# Altium footprint library BQ41Z50RSNR.PcbLib: 3 footprints
Each footprint in its own frame and in the unit in brackets; x right, y up, seen from the top. Pads: shape width x height; smd on the part's side, far side on the other; paste and mask are expansions set on the pad; w line width, h text height; cw(c..) or ccw(c..) is an arc to the next point about the centre after c.
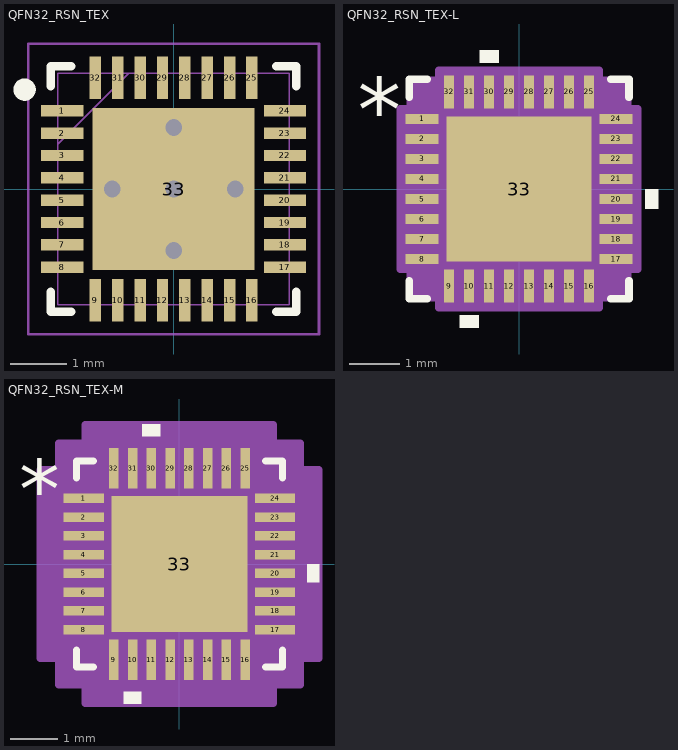
[diagram p0: the footprints below, top view; thin cyan lines are the x and y axes]

## QFN32_RSN_TEX [mil]
pads (33):
  rect 29.81x8.03 smd: 1(-78.41,55.12) 2(-78.41,39.38) 3(-78.41,23.62) 4(-78.41,7.88) 5(-78.41,-7.88) 6(-78.41,-23.62) 7(-78.41,-39.38) 8(-78.41,-55.12) 17(78.41,-55.12) 18(78.41,-39.38) 19(78.41,-23.62) 20(78.41,-7.88) 21(78.41,7.88) 22(78.41,23.62) 23(78.41,39.38) 24(78.41,55.12)
  rect 8.03x29.81 smd: 9(-55.12,-78.41) 10(-39.38,-78.41) 11(-23.62,-78.41) 12(-7.88,-78.41) 13(7.88,-78.41) 14(23.62,-78.41) 15(39.38,-78.41) 16(55.12,-78.41) 25(55.12,78.41) 26(39.38,78.41) 27(23.62,78.41) 28(7.88,78.41) 29(-7.88,78.41) 30(-23.62,78.41) 31(-39.38,78.41) 32(-55.12,78.41)
  rect 114x114 smd: 33(0,0)
via 0,0 diameter 23.62 hole 11.81
via -43.31,0 diameter 23.62 hole 11.81
via 43.31,0 diameter 23.62 hole 11.81
via 0,43.31 diameter 23.62 hole 11.81
via 0,-43.31 diameter 23.62 hole 11.81
Top Overlay:
  circle w7.87: c-105,70 r3.94
  lines w6: -86.5,-72.24 -86.5,-86.5 -72.24,-86.5 ; -86.5,72.24 -86.5,86.5 -72.24,86.5 ; 72.24,-86.5 86.5,-86.5 86.5,-72.24 ; 72.24,86.5 86.5,86.5 86.5,72.24
Top Paste:
  region: 53.06,-3.94 3.94,-3.94 3.94,-53.06 53.06,-53.06
  region: 53.06,53.06 3.94,53.06 3.94,3.94 53.06,3.94
  region: -3.94,-3.94 -53.06,-3.94 -53.06,-53.06 -3.94,-53.06
  region: -3.94,53.06 -53.06,53.06 -53.06,3.94 -3.94,3.94
Mechanical 13:
  lines w1: -81.5,31.5 -31.5,81.5 ; -81.5,-81.5 -81.5,81.5 81.5,81.5 81.5,-81.5 -81.5,-81.5 ; -81.5,-60.12 -81.5,-50.12 -81.5,-60.12 ; -81.5,-44.38 -81.5,-34.38 -81.5,-44.38 ; -81.5,-28.62 -81.5,-18.62 -81.5,-28.62 ; -81.5,-12.88 -81.5,-2.88 -81.5,-12.88 ; -81.5,2.88 -81.5,12.88 -81.5,2.88 ; -81.5,18.62 -81.5,28.62 -81.5,18.62 ; -81.5,34.38 -81.5,44.38 -81.5,34.38 ; -81.5,50.12 -81.5,60.12 -81.5,50.12 ; -60.12,-81.5 -50.12,-81.5 -60.12,-81.5 ; -60.12,81.5 -50.12,81.5 -60.12,81.5 ; -44.38,-81.5 -34.38,-81.5 -44.38,-81.5 ; -44.38,81.5 -34.38,81.5 -44.38,81.5 ; -28.62,-81.5 -18.62,-81.5 -28.62,-81.5 ; -28.62,81.5 -18.62,81.5 -28.62,81.5 ; -12.88,-81.5 -2.88,-81.5 -12.88,-81.5 ; -12.88,81.5 -2.88,81.5 -12.88,81.5 ; 2.88,-81.5 12.88,-81.5 2.88,-81.5 ; 2.88,81.5 12.88,81.5 2.88,81.5 ; 18.62,-81.5 28.62,-81.5 18.62,-81.5 ; 18.62,81.5 28.62,81.5 18.62,81.5 ; 34.38,-81.5 44.38,-81.5 34.38,-81.5 ; 34.38,81.5 44.38,81.5 34.38,81.5 ; 50.12,-81.5 60.12,-81.5 50.12,-81.5 ; 50.12,81.5 60.12,81.5 50.12,81.5 ; 81.5,-60.12 81.5,-50.12 81.5,-60.12 ; 81.5,-44.38 81.5,-34.38 81.5,-44.38 ; 81.5,-28.62 81.5,-18.62 81.5,-28.62 ; 81.5,-12.88 81.5,-2.88 81.5,-12.88 ; 81.5,2.88 81.5,12.88 81.5,2.88 ; 81.5,18.62 81.5,28.62 81.5,18.62 ; 81.5,34.38 81.5,44.38 81.5,34.38 ; 81.5,50.12 81.5,60.12 81.5,50.12
Mechanical 15:
  lines w1.97: -102.36,-102.36 102.36,-102.36 102.36,102.36 -102.36,102.36 -102.36,-102.36
3D body "RSN0032B.stp": height 31.5, standoff 0, extent -78.74,-78.74 78.74,78.74

## QFN32_RSN_TEX-L [mil]
pads (33):
  rect 25.87x8.03 smd paste+0 mask+0: 1(-76.44,55.12) 2(-76.44,39.38) 3(-76.44,23.62) 4(-76.44,7.88) 5(-76.44,-7.88) 6(-76.44,-23.62) 7(-76.44,-39.38) 8(-76.44,-55.12) 17(76.44,-55.12) 18(76.44,-39.38) 19(76.44,-23.62) 20(76.44,-7.88) 21(76.44,7.88) 22(76.44,23.62) 23(76.44,39.38) 24(76.44,55.12)
  rect 8.03x25.87 smd paste+0 mask+0: 9(-55.12,-76.44) 10(-39.38,-76.44) 11(-23.62,-76.44) 12(-7.88,-76.44) 13(7.88,-76.44) 14(23.62,-76.44) 15(39.38,-76.44) 16(55.12,-76.44) 25(55.12,76.44) 26(39.38,76.44) 27(23.62,76.44) 28(7.88,76.44) 29(-7.88,76.44) 30(-23.62,76.44) 31(-39.38,76.44) 32(-55.12,76.44)
  rect 114x114 smd paste-57 mask+0: 33(0,0)
Top Overlay:
  region: -31.88,-99.37 -46.88,-99.37 -46.88,-109.37 -31.88,-109.37
  region: 99.37,-0.38 109.37,-0.38 109.37,-15.38 99.37,-15.38
  region: -16.12,99.37 -31.12,99.37 -31.12,109.37 -16.12,109.37
  lines w6: -86.5,-72.24 -86.5,-86.5 -72.24,-86.5 ; -86.5,72.24 -86.5,86.5 -72.24,86.5 ; 72.24,-86.5 86.5,-86.5 86.5,-72.24 ; 72.24,86.5 86.5,86.5 86.5,72.24
  text "*" at -126.87,38 h50
  text ".Designator" at -137.5,-25 h50
Top Paste:
  region: -3.94,53.06 -53.06,53.06 -53.06,3.94 -3.94,3.94
  region: -3.94,-3.94 -53.06,-3.94 -53.06,-53.06 -3.94,-53.06
  region: 53.06,53.06 3.94,53.06 3.94,3.94 53.06,3.94
  region: 53.06,-3.94 3.94,-3.94 3.94,-53.06 53.06,-53.06
Mechanical 13:
  lines w1: -81.5,31.5 -31.5,81.5 ; -81.5,-81.5 81.5,-81.5 ; -81.5,-81.5 -81.5,81.5 ; -81.5,-81.5 -81.5,-81.5 ; -81.5,-60.12 -81.5,-50.12 ; -81.5,-60.12 -81.5,-50.12 ; -81.5,-60.12 -81.5,-60.12 ; -81.5,-50.12 -81.5,-50.12 ; -81.5,-44.38 -81.5,-34.38 ; -81.5,-44.38 -81.5,-34.38 ; -81.5,-44.38 -81.5,-44.38 ; -81.5,-34.38 -81.5,-34.38 ; -81.5,-28.62 -81.5,-18.62 ; -81.5,-28.62 -81.5,-18.62 ; -81.5,-28.62 -81.5,-28.62 ; -81.5,-18.62 -81.5,-18.62 ; -81.5,-12.88 -81.5,-2.88 ; -81.5,-12.88 -81.5,-2.88 ; -81.5,-12.88 -81.5,-12.88 ; -81.5,-2.88 -81.5,-2.88 ; -81.5,2.88 -81.5,12.88 ; -81.5,2.88 -81.5,12.88 ; -81.5,2.88 -81.5,2.88 ; -81.5,12.88 -81.5,12.88 ; -81.5,18.62 -81.5,28.62 ; -81.5,18.62 -81.5,28.62 ; -81.5,18.62 -81.5,18.62 ; -81.5,28.62 -81.5,28.62 ; -81.5,34.38 -81.5,44.38 ; -81.5,34.38 -81.5,44.38 ; -81.5,34.38 -81.5,34.38 ; -81.5,44.38 -81.5,44.38 ; -81.5,50.12 -81.5,60.12 ; -81.5,50.12 -81.5,60.12 ; -81.5,50.12 -81.5,50.12 ; -81.5,60.12 -81.5,60.12 ; -81.5,81.5 81.5,81.5 ; -81.5,81.5 -81.5,81.5 ; -60.12,-81.5 -50.12,-81.5 ; -60.12,-81.5 -60.12,-81.5 ; -60.12,-81.5 -50.12,-81.5 ; -60.12,81.5 -50.12,81.5 ; -60.12,81.5 -50.12,81.5 ; -60.12,81.5 -60.12,81.5 ; -50.12,-81.5 -50.12,-81.5 ; -50.12,81.5 -50.12,81.5 ; -44.38,-81.5 -34.38,-81.5 ; -44.38,-81.5 -44.38,-81.5 ; -44.38,-81.5 -34.38,-81.5 ; -44.38,81.5 -34.38,81.5 ; -44.38,81.5 -34.38,81.5 ; -44.38,81.5 -44.38,81.5 ; -34.38,-81.5 -34.38,-81.5 ; -34.38,81.5 -34.38,81.5 ; -28.62,-81.5 -18.62,-81.5 ; -28.62,-81.5 -28.62,-81.5 ; -28.62,-81.5 -18.62,-81.5 ; -28.62,81.5 -18.62,81.5 ; -28.62,81.5 -18.62,81.5 ; -28.62,81.5 -28.62,81.5 ; -18.62,-81.5 -18.62,-81.5 ; -18.62,81.5 -18.62,81.5 ; -12.88,-81.5 -2.88,-81.5 ; -12.88,-81.5 -12.88,-81.5 ; -12.88,-81.5 -2.88,-81.5 ; -12.88,81.5 -2.88,81.5 ; -12.88,81.5 -2.88,81.5 ; -12.88,81.5 -12.88,81.5 ; -2.88,-81.5 -2.88,-81.5 ; -2.88,81.5 -2.88,81.5 ; 2.88,-81.5 12.88,-81.5 ; 2.88,-81.5 2.88,-81.5 ; 2.88,-81.5 12.88,-81.5 ; 2.88,81.5 12.88,81.5 ; 2.88,81.5 12.88,81.5 ; 2.88,81.5 2.88,81.5 ; 12.88,-81.5 12.88,-81.5 ; 12.88,81.5 12.88,81.5 ; 18.62,-81.5 28.62,-81.5 ; 18.62,-81.5 18.62,-81.5 ; 18.62,-81.5 28.62,-81.5 ; 18.62,81.5 28.62,81.5 ; 18.62,81.5 28.62,81.5 ; 18.62,81.5 18.62,81.5 ; 28.62,-81.5 28.62,-81.5 ; 28.62,81.5 28.62,81.5 ; 34.38,-81.5 44.38,-81.5 ; 34.38,-81.5 34.38,-81.5 ; 34.38,-81.5 44.38,-81.5 ; 34.38,81.5 44.38,81.5 ; 34.38,81.5 44.38,81.5 ; 34.38,81.5 34.38,81.5 ; 44.38,-81.5 44.38,-81.5 ; 44.38,81.5 44.38,81.5 ; 50.12,-81.5 60.12,-81.5 ; 50.12,-81.5 50.12,-81.5 ; 50.12,-81.5 60.12,-81.5 ; 50.12,81.5 60.12,81.5 ; 50.12,81.5 60.12,81.5 ; 50.12,81.5 50.12,81.5 ; 60.12,-81.5 60.12,-81.5 ; 60.12,81.5 60.12,81.5 ; 81.5,-81.5 81.5,-81.5 ; 81.5,-81.5 81.5,81.5 ; 81.5,-60.12 81.5,-50.12 ; 81.5,-60.12 81.5,-60.12 ; 81.5,-60.12 81.5,-50.12 ; 81.5,-50.12 81.5,-50.12 ; 81.5,-44.38 81.5,-34.38 ; 81.5,-44.38 81.5,-44.38 ; 81.5,-44.38 81.5,-34.38 ; 81.5,-34.38 81.5,-34.38 ; 81.5,-28.62 81.5,-18.62 ; 81.5,-28.62 81.5,-28.62 ; 81.5,-28.62 81.5,-18.62 ; 81.5,-18.62 81.5,-18.62 ; 81.5,-12.88 81.5,-2.88 ; 81.5,-12.88 81.5,-12.88 ; 81.5,-12.88 81.5,-2.88 ; 81.5,-2.88 81.5,-2.88 ; 81.5,2.88 81.5,12.88 ; 81.5,2.88 81.5,2.88 ; 81.5,2.88 81.5,12.88 ; 81.5,12.88 81.5,12.88 ; 81.5,18.62 81.5,28.62 ; 81.5,18.62 81.5,18.62 ; 81.5,18.62 81.5,28.62 ; 81.5,28.62 81.5,28.62 ; 81.5,34.38 81.5,44.38 ; 81.5,34.38 81.5,34.38 ; 81.5,34.38 81.5,44.38 ; 81.5,44.38 81.5,44.38 ; 81.5,50.12 81.5,60.12 ; 81.5,50.12 81.5,50.12 ; 81.5,50.12 81.5,60.12 ; 81.5,60.12 81.5,60.12 ; 81.5,81.5 81.5,81.5
  text ".Designator" at -137.5,-25 h50
  text "*" at -76,38 h50
Mechanical 15:
  region: -63.14,-85.5 -85.5,-85.5 -85.5,-63.14 -93.37,-63.14 -93.37,63.14 -85.5,63.14 -85.5,85.5 -63.14,85.5 -63.14,93.37 63.14,93.37 63.14,85.5 85.5,85.5 85.5,63.14 93.37,63.14 93.37,-63.14 85.5,-63.14 85.5,-85.5 63.14,-85.5 63.14,-93.37 -63.14,-93.37
  lines w6: -93.37,-63.14 -85.5,-63.14 -85.5,-85.5 -63.14,-85.5 -63.14,-93.37 63.14,-93.37 63.14,-85.5 85.5,-85.5 85.5,-63.14 93.37,-63.14 93.37,63.14 85.5,63.14 85.5,85.5 63.14,85.5 63.14,93.37 -63.14,93.37 -63.14,85.5 -85.5,85.5 -85.5,63.14 -93.37,63.14 -93.37,-63.14
3D body "QFN32_RSN_TEX.step": height 32.09, standoff 0, extent -81.5,-81.5 81.5,81.5

## QFN32_RSN_TEX-M [mil]
pads (33):
  rect 33.75x8.03 smd paste+0 mask+0: 1(-80.37,55.12) 2(-80.37,39.38) 3(-80.37,23.62) 4(-80.37,7.88) 5(-80.37,-7.88) 6(-80.37,-23.62) 7(-80.37,-39.38) 8(-80.37,-55.12) 17(80.37,-55.12) 18(80.37,-39.38) 19(80.37,-23.62) 20(80.37,-7.88) 21(80.37,7.88) 22(80.37,23.62) 23(80.37,39.38) 24(80.37,55.12)
  rect 8.03x33.75 smd paste+0 mask+0: 9(-55.12,-80.37) 10(-39.38,-80.37) 11(-23.62,-80.37) 12(-7.88,-80.37) 13(7.88,-80.37) 14(23.62,-80.37) 15(39.38,-80.37) 16(55.12,-80.37) 25(55.12,80.37) 26(39.38,80.37) 27(23.62,80.37) 28(7.88,80.37) 29(-7.88,80.37) 30(-23.62,80.37) 31(-39.38,80.37) 32(-55.12,80.37)
  rect 114x114 smd paste-57 mask+0: 33(0,0)
Top Overlay:
  region: -31.88,-107.25 -46.88,-107.25 -46.88,-117.25 -31.88,-117.25
  region: 107.25,-0.38 117.25,-0.38 117.25,-15.38 107.25,-15.38
  region: -16.12,107.25 -31.12,107.25 -31.12,117.25 -16.12,117.25
  lines w6: -86.5,-72.24 -86.5,-86.5 -72.24,-86.5 ; -86.5,72.24 -86.5,86.5 -72.24,86.5 ; 72.24,-86.5 86.5,-86.5 86.5,-72.24 ; 72.24,86.5 86.5,86.5 86.5,72.24
  text "*" at -134.75,38 h50
  text ".Designator" at -137.5,-25 h50
Top Paste:
  region: -3.94,53.06 -53.06,53.06 -53.06,3.94 -3.94,3.94
  region: -3.94,-3.94 -53.06,-3.94 -53.06,-53.06 -3.94,-53.06
  region: 53.06,53.06 3.94,53.06 3.94,3.94 53.06,3.94
  region: 53.06,-3.94 3.94,-3.94 3.94,-53.06 53.06,-53.06
Mechanical 13:
  lines w1: -81.5,31.5 -31.5,81.5 ; -81.5,-81.5 81.5,-81.5 ; -81.5,-81.5 -81.5,81.5 ; -81.5,-81.5 -81.5,-81.5 ; -81.5,-60.12 -81.5,-50.12 ; -81.5,-60.12 -81.5,-50.12 ; -81.5,-60.12 -81.5,-60.12 ; -81.5,-50.12 -81.5,-50.12 ; -81.5,-44.38 -81.5,-34.38 ; -81.5,-44.38 -81.5,-34.38 ; -81.5,-44.38 -81.5,-44.38 ; -81.5,-34.38 -81.5,-34.38 ; -81.5,-28.62 -81.5,-18.62 ; -81.5,-28.62 -81.5,-18.62 ; -81.5,-28.62 -81.5,-28.62 ; -81.5,-18.62 -81.5,-18.62 ; -81.5,-12.88 -81.5,-2.88 ; -81.5,-12.88 -81.5,-2.88 ; -81.5,-12.88 -81.5,-12.88 ; -81.5,-2.88 -81.5,-2.88 ; -81.5,2.88 -81.5,12.88 ; -81.5,2.88 -81.5,12.88 ; -81.5,2.88 -81.5,2.88 ; -81.5,12.88 -81.5,12.88 ; -81.5,18.62 -81.5,28.62 ; -81.5,18.62 -81.5,28.62 ; -81.5,18.62 -81.5,18.62 ; -81.5,28.62 -81.5,28.62 ; -81.5,34.38 -81.5,44.38 ; -81.5,34.38 -81.5,44.38 ; -81.5,34.38 -81.5,34.38 ; -81.5,44.38 -81.5,44.38 ; -81.5,50.12 -81.5,60.12 ; -81.5,50.12 -81.5,60.12 ; -81.5,50.12 -81.5,50.12 ; -81.5,60.12 -81.5,60.12 ; -81.5,81.5 81.5,81.5 ; -81.5,81.5 -81.5,81.5 ; -60.12,-81.5 -50.12,-81.5 ; -60.12,-81.5 -60.12,-81.5 ; -60.12,-81.5 -50.12,-81.5 ; -60.12,81.5 -50.12,81.5 ; -60.12,81.5 -50.12,81.5 ; -60.12,81.5 -60.12,81.5 ; -50.12,-81.5 -50.12,-81.5 ; -50.12,81.5 -50.12,81.5 ; -44.38,-81.5 -34.38,-81.5 ; -44.38,-81.5 -44.38,-81.5 ; -44.38,-81.5 -34.38,-81.5 ; -44.38,81.5 -34.38,81.5 ; -44.38,81.5 -34.38,81.5 ; -44.38,81.5 -44.38,81.5 ; -34.38,-81.5 -34.38,-81.5 ; -34.38,81.5 -34.38,81.5 ; -28.62,-81.5 -18.62,-81.5 ; -28.62,-81.5 -28.62,-81.5 ; -28.62,-81.5 -18.62,-81.5 ; -28.62,81.5 -18.62,81.5 ; -28.62,81.5 -18.62,81.5 ; -28.62,81.5 -28.62,81.5 ; -18.62,-81.5 -18.62,-81.5 ; -18.62,81.5 -18.62,81.5 ; -12.88,-81.5 -2.88,-81.5 ; -12.88,-81.5 -12.88,-81.5 ; -12.88,-81.5 -2.88,-81.5 ; -12.88,81.5 -2.88,81.5 ; -12.88,81.5 -2.88,81.5 ; -12.88,81.5 -12.88,81.5 ; -2.88,-81.5 -2.88,-81.5 ; -2.88,81.5 -2.88,81.5 ; 2.88,-81.5 12.88,-81.5 ; 2.88,-81.5 2.88,-81.5 ; 2.88,-81.5 12.88,-81.5 ; 2.88,81.5 12.88,81.5 ; 2.88,81.5 12.88,81.5 ; 2.88,81.5 2.88,81.5 ; 12.88,-81.5 12.88,-81.5 ; 12.88,81.5 12.88,81.5 ; 18.62,-81.5 28.62,-81.5 ; 18.62,-81.5 18.62,-81.5 ; 18.62,-81.5 28.62,-81.5 ; 18.62,81.5 28.62,81.5 ; 18.62,81.5 28.62,81.5 ; 18.62,81.5 18.62,81.5 ; 28.62,-81.5 28.62,-81.5 ; 28.62,81.5 28.62,81.5 ; 34.38,-81.5 44.38,-81.5 ; 34.38,-81.5 34.38,-81.5 ; 34.38,-81.5 44.38,-81.5 ; 34.38,81.5 44.38,81.5 ; 34.38,81.5 44.38,81.5 ; 34.38,81.5 34.38,81.5 ; 44.38,-81.5 44.38,-81.5 ; 44.38,81.5 44.38,81.5 ; 50.12,-81.5 60.12,-81.5 ; 50.12,-81.5 50.12,-81.5 ; 50.12,-81.5 60.12,-81.5 ; 50.12,81.5 60.12,81.5 ; 50.12,81.5 60.12,81.5 ; 50.12,81.5 50.12,81.5 ; 60.12,-81.5 60.12,-81.5 ; 60.12,81.5 60.12,81.5 ; 81.5,-81.5 81.5,-81.5 ; 81.5,-81.5 81.5,81.5 ; 81.5,-60.12 81.5,-50.12 ; 81.5,-60.12 81.5,-60.12 ; 81.5,-60.12 81.5,-50.12 ; 81.5,-50.12 81.5,-50.12 ; 81.5,-44.38 81.5,-34.38 ; 81.5,-44.38 81.5,-44.38 ; 81.5,-44.38 81.5,-34.38 ; 81.5,-34.38 81.5,-34.38 ; 81.5,-28.62 81.5,-18.62 ; 81.5,-28.62 81.5,-28.62 ; 81.5,-28.62 81.5,-18.62 ; 81.5,-18.62 81.5,-18.62 ; 81.5,-12.88 81.5,-2.88 ; 81.5,-12.88 81.5,-12.88 ; 81.5,-12.88 81.5,-2.88 ; 81.5,-2.88 81.5,-2.88 ; 81.5,2.88 81.5,12.88 ; 81.5,2.88 81.5,2.88 ; 81.5,2.88 81.5,12.88 ; 81.5,12.88 81.5,12.88 ; 81.5,18.62 81.5,28.62 ; 81.5,18.62 81.5,18.62 ; 81.5,18.62 81.5,28.62 ; 81.5,28.62 81.5,28.62 ; 81.5,34.38 81.5,44.38 ; 81.5,34.38 81.5,34.38 ; 81.5,34.38 81.5,44.38 ; 81.5,44.38 81.5,44.38 ; 81.5,50.12 81.5,60.12 ; 81.5,50.12 81.5,50.12 ; 81.5,50.12 81.5,60.12 ; 81.5,60.12 81.5,60.12 ; 81.5,81.5 81.5,81.5
  text ".Designator" at -137.5,-25 h50
  text "*" at -76,38 h50
Mechanical 15:
  region: -79.14,-101.5 -101.5,-101.5 -101.5,-79.14 -117.25,-79.14 -117.25,79.14 -101.5,79.14 -101.5,101.5 -79.14,101.5 -79.14,117.25 79.14,117.25 79.14,101.5 101.5,101.5 101.5,79.14 117.25,79.14 117.25,-79.14 101.5,-79.14 101.5,-101.5 79.14,-101.5 79.14,-117.25 -79.14,-117.25
  lines w6: -117.25,-79.14 -101.5,-79.14 -101.5,-101.5 -79.14,-101.5 -79.14,-117.25 79.14,-117.25 79.14,-101.5 101.5,-101.5 101.5,-79.14 117.25,-79.14 117.25,79.14 101.5,79.14 101.5,101.5 79.14,101.5 79.14,117.25 -79.14,117.25 -79.14,101.5 -101.5,101.5 -101.5,79.14 -117.25,79.14 -117.25,-79.14
3D body "QFN32_RSN_TEX.step": height 32.09, standoff 0, extent -81.5,-81.5 81.5,81.5